# Altium footprint library Leadless.PcbLib: 132 footprints (part 9 of 9)
Each footprint in its own frame and in the unit in brackets; x right, y up, seen from the top. Pads: shape width x height; smd on the part's side, far side on the other; paste and mask are expansions set on the pad; w line width, h text height; cw(c..) or ccw(c..) is an arc to the next point about the centre after c.
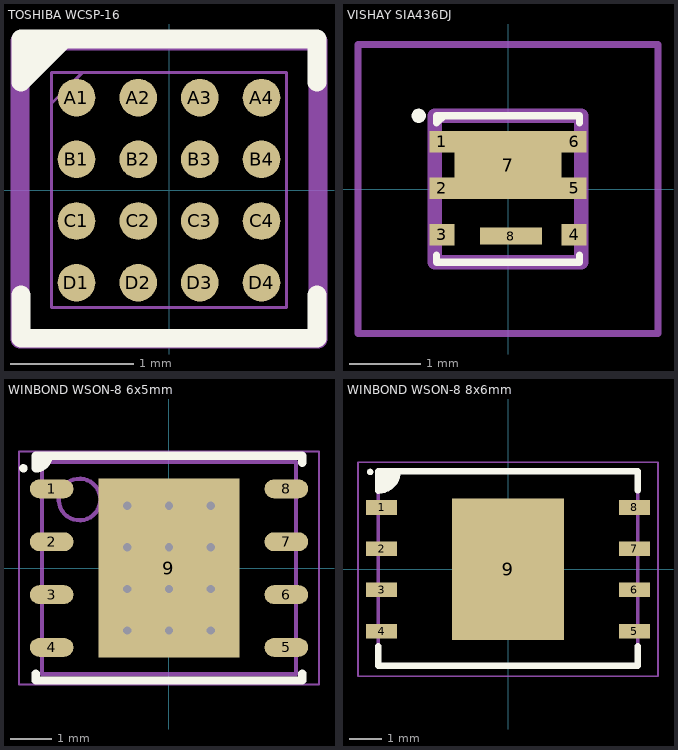
[diagram p8: the footprints below, top view; thin cyan lines are the x and y axes]

## TOSHIBA WCSP-16 [mm] "WCSP16C"
height 0.54
pads (16):
  round 0.305 smd paste+0 mask+0: A1(-0.75,0.75) A2(-0.25,0.75) A3(0.25,0.75) A4(0.75,0.75) B1(-0.75,0.25) B2(-0.25,0.25) B3(0.25,0.25) B4(0.75,0.25) C1(-0.75,-0.25) C2(-0.25,-0.25) C3(0.25,-0.25) C4(0.75,-0.25) D1(-0.75,-0.75) D2(-0.25,-0.75) D3(0.25,-0.75) D4(0.75,-0.75)
Top Overlay:
  lines w0.152: -1.2,-0.85 -1.2,-1.2 1.2,-1.2 1.2,-0.85 ; -1.025,1.05 -1.2,1.225 ; -0.85,1.225 -1.2,0.875 -1.2,1.225 ; 1.2,0.875 1.2,1.225 -1.2,1.225
Assembly Notes:
  lines w0.025: -0.953,0.703 -0.703,0.953 ; -0.953,-0.953 -0.953,0.953 0.953,0.953 0.953,-0.953 -0.953,-0.953
Dimensions:
  lines w0.152: -1.206,-1.206 1.206,-1.206 1.206,1.206 -1.206,1.206 -1.206,-1.206
3D body "WCSP16C_TOS.step": height 0.57, standoff -0.02, extent -0.952,-0.952 0.952,0.952

## VISHAY SIA436DJ [mm]
pads (8):
  rect 0.35x0.3 smd: 1(-0.925,0.659) 2(-0.925,0.009) 3(-0.925,-0.641) 4(0.925,-0.641) 5(0.925,0.009) 6(0.925,0.659)
  rect 1.5x0.95 smd: 7(0,0.334)
  rect 0.87x0.235 smd: 8(0.04,-0.659)
Top Overlay:
  lines w0.1: -1,-0.925 -1,-1.025 1,-1.025 1,-0.925 ; -0.9,1.025 -1,0.925 -1,1.025 1,1.025 1,0.925 ; -1.3,1.025 ccw(c-1.25,1.025) -1.2,1.025 ccw(c-1.25,1.025) -1.3,1.025
Top Component Outline:
  lines w0.2: -1.025,-1.025 -1.025,1.025 1.025,1.025 1.025,-1.025 -1.025,-1.025
Top Courtyard:
  lines w0.1: -2.1,-2.025 -2.1,2.025 2.1,2.025 2.1,-2.025 -2.1,-2.025
3D body "SIA436DJ-T1-GE3.stp": height 0.9, standoff 0, extent -1.07,-1.025 1.07,1.025

## WINBOND WSON-8 6x5mm [mm] "SON, 8-Leads, Body 5.00x6.00mm, Pitch 1.27mm, Thermal Pad 4.30x3.40mm, IPC Medium Density"
height 0.8
pads (9):
  oval 1.05x0.45 smd: 1(-2.82,1.905) 2(-2.82,0.635) 3(-2.82,-0.635) 4(-2.82,-1.905) 5(2.82,-1.905) 6(2.82,-0.635) 7(2.82,0.635) 8(2.82,1.905)
  rect 3.4x4.3 smd paste-1.7 mask+0: 9(0,0)
via 1,-1.5 diameter 0.5 hole 0.2
via 0,-1.5 diameter 0.5 hole 0.2
via -1,-1.5 diameter 0.5 hole 0.2
via 1,-0.5 diameter 0.5 hole 0.2
via 0,-0.5 diameter 0.5 hole 0.2
via -1,-0.5 diameter 0.5 hole 0.2
via 1,0.5 diameter 0.5 hole 0.2
via 0,0.5 diameter 0.5 hole 0.2
via -1,0.5 diameter 0.5 hole 0.2
via 1,1.5 diameter 0.5 hole 0.2
via 0,1.5 diameter 0.5 hole 0.2
via -1,1.5 diameter 0.5 hole 0.2
Top Overlay:
  circle w0.1: c-3.5,2.4 r0.05
  region: -3.2,2.4 -3.14,2.4 -3.03,2.446 -2.946,2.53 -2.9,2.64 -2.9,2.7 -3.2,2.7
  lines w0.2: -3.2,-2.53 -3.2,-2.7 3.2,-2.7 3.2,-2.53 ; -2.9,2.7 cw(c-3.2,2.7) -3.2,2.4 ; 3.2,2.53 3.2,2.7 -3.2,2.7 -3.2,2.4 ; -3.2,2.4 -3.2,2.4
Top Paste:
  rectangle: 0.665,-2.045 1.595,-0.815
  rectangle: 0.665,-0.615 1.595,0.615
  rectangle: 0.665,0.815 1.595,2.045
  rectangle: -0.465,-2.045 0.465,-0.815
  rectangle: -0.465,-0.615 0.465,0.615
  rectangle: -0.465,0.815 0.465,2.045
  rectangle: -1.595,-2.045 -0.665,-0.815
  rectangle: -1.595,-0.615 -0.665,0.615
  rectangle: -1.595,0.815 -0.665,2.045
Top Component Outline:
  circle w0.1: c-2.15,1.65 r0.5
  lines w0.1: -3.05,-2.55 3.05,-2.55 3.05,2.55 -3.05,2.55 -3.05,-2.55
Top Courtyard:
  lines w0.05: -3.605,-2.8 3.605,-2.8 3.605,2.8 -3.605,2.8 -3.605,-2.8
  lines w0.1: -0.5,0 0.5,0 ; 0,-0.5 0,0.5
3D body: height 0.8, standoff 0, extent -3.05,-2.55 3.05,2.55

## WINBOND WSON-8 8x6mm [mm]
height 0.75
pads (9):
  rect 0.95x0.45 smd: 1(-3.9,1.905) 2(-3.9,0.635) 3(-3.9,-0.635) 4(-3.9,-1.905) 5(3.9,-1.905) 6(3.9,-0.635) 7(3.9,0.635) 8(3.9,1.905)
  rect 3.45x4.35 smd: 9(0,0)
Top Overlay:
  circle w0.1: c-4.25,3 r0.05
  region: -4,2.429 -3.886,2.433 -3.678,2.528 -3.522,2.696 -3.442,2.911 -3.446,3.025 -4,3.025
  lines w0.2: -4,-2.379 -4,-2.975 4,-2.975 4,-2.379 ; -4,2.425 ccw(c-4,3.025) -3.4,3.025 ; -4,2.429 -4,3.025 4,3.025 4,2.429
Top Component Outline:
  lines w0.1: -4,-3 4,-3 4,3 -4,3 -4,-3
Top Courtyard:
  lines w0.05: -4.625,-3.3 4.625,-3.3 4.625,3.3 -4.625,3.3 -4.625,-3.3
3D body "W74M25JVZEIQ.stp": height 0.8, standoff 0, extent -4.05,-3 4.05,3